# Altium footprint library 0603 - LED.PcbLib: 1 footprints
Each footprint in its own frame and in the unit in brackets; x right, y up, seen from the top. Pads: shape width x height; smd on the part's side, far side on the other; paste and mask are expansions set on the pad; w line width, h text height; cw(c..) or ccw(c..) is an arc to the next point about the centre after c.
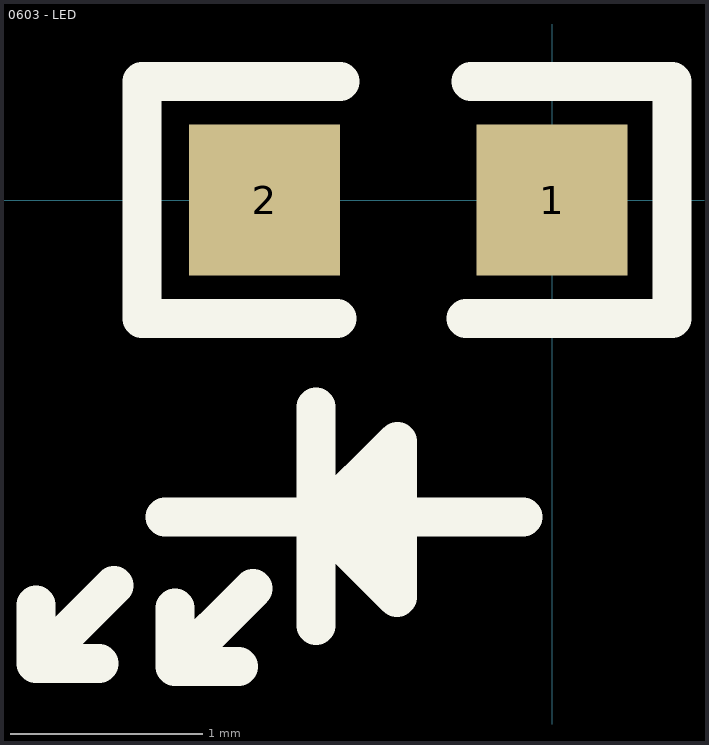
[diagram p0: the footprint, top view; thin cyan lines are the x and y axes]

## 0603 - LED [mil]
height 35
pads (2):
  rect 31x31 smd: 1(0,0) 2(-59,0)
TopOverlay:
  lines w7.99: -48.49,-87.29 -48.49,-42.43
  lines w8: -105.93,-83.1 -105.93,-95.1 ; -92.93,-95.1 -105.93,-95.1 ; -89.93,-79.1 -105.93,-95.1 ; -79.42,-65 -6.02,-64.98 ; -77.35,-83.7 -77.35,-95.7 ; -64.35,-95.7 -77.35,-95.7 ; -61.35,-79.7 -77.35,-95.7 ; -47.71,-65.73 -31.88,-81.56 ; -47.58,-65.24 -31.75,-49.48 -31.75,-81.42 ; -44.1,-24.31 -84.1,-24.31 -84.1,24.36 -43.55,24.36 ; -37.32,-60.22 -31.75,-60.22 ; -36.59,-68.47 -36.59,-64.98 ; -17.71,-24.31 24.62,-24.31 24.62,24.36 -16.61,24.36
3D body: height 35.43, standoff 0, extent -63.55,-17.72 3.38,17.72